# Altium schematic symbol library R1206.SchLib: 1 symbol
Pins are listed as number, name and electrical type; pins without a type are passive.

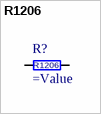
[diagram p0: symbol R1206]

## R1206
designator R?
pins: 1, 2